# Altium schematic symbol library MOSFET,P Ch,30V,35A.Schlib: 1 symbol
Pins are listed as number, name and electrical type; pins without a type are passive.

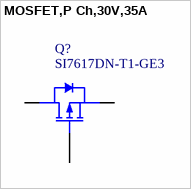
[diagram p0: symbol MOSFET,P Ch,30V,35A]

## MOSFET,P Ch,30V,35A
designator Q?, comment SI7617DN-T1-GE3
P-Channel 35A (Tc) 3.7W (Ta), 52W (Tc) Surface Mount PowerPAK® 1212-8
pins: 1 S, 4 G, 5 D